# Altium footprint library sm_inductor.PcbLib: 20 footprints (part 1 of 2)
Each footprint in its own frame and in the unit in brackets; x right, y up, seen from the top. Pads: shape width x height; smd on the part's side, far side on the other; paste and mask are expansions set on the pad; w line width, h text height; cw(c..) or ccw(c..) is an arc to the next point about the centre after c.
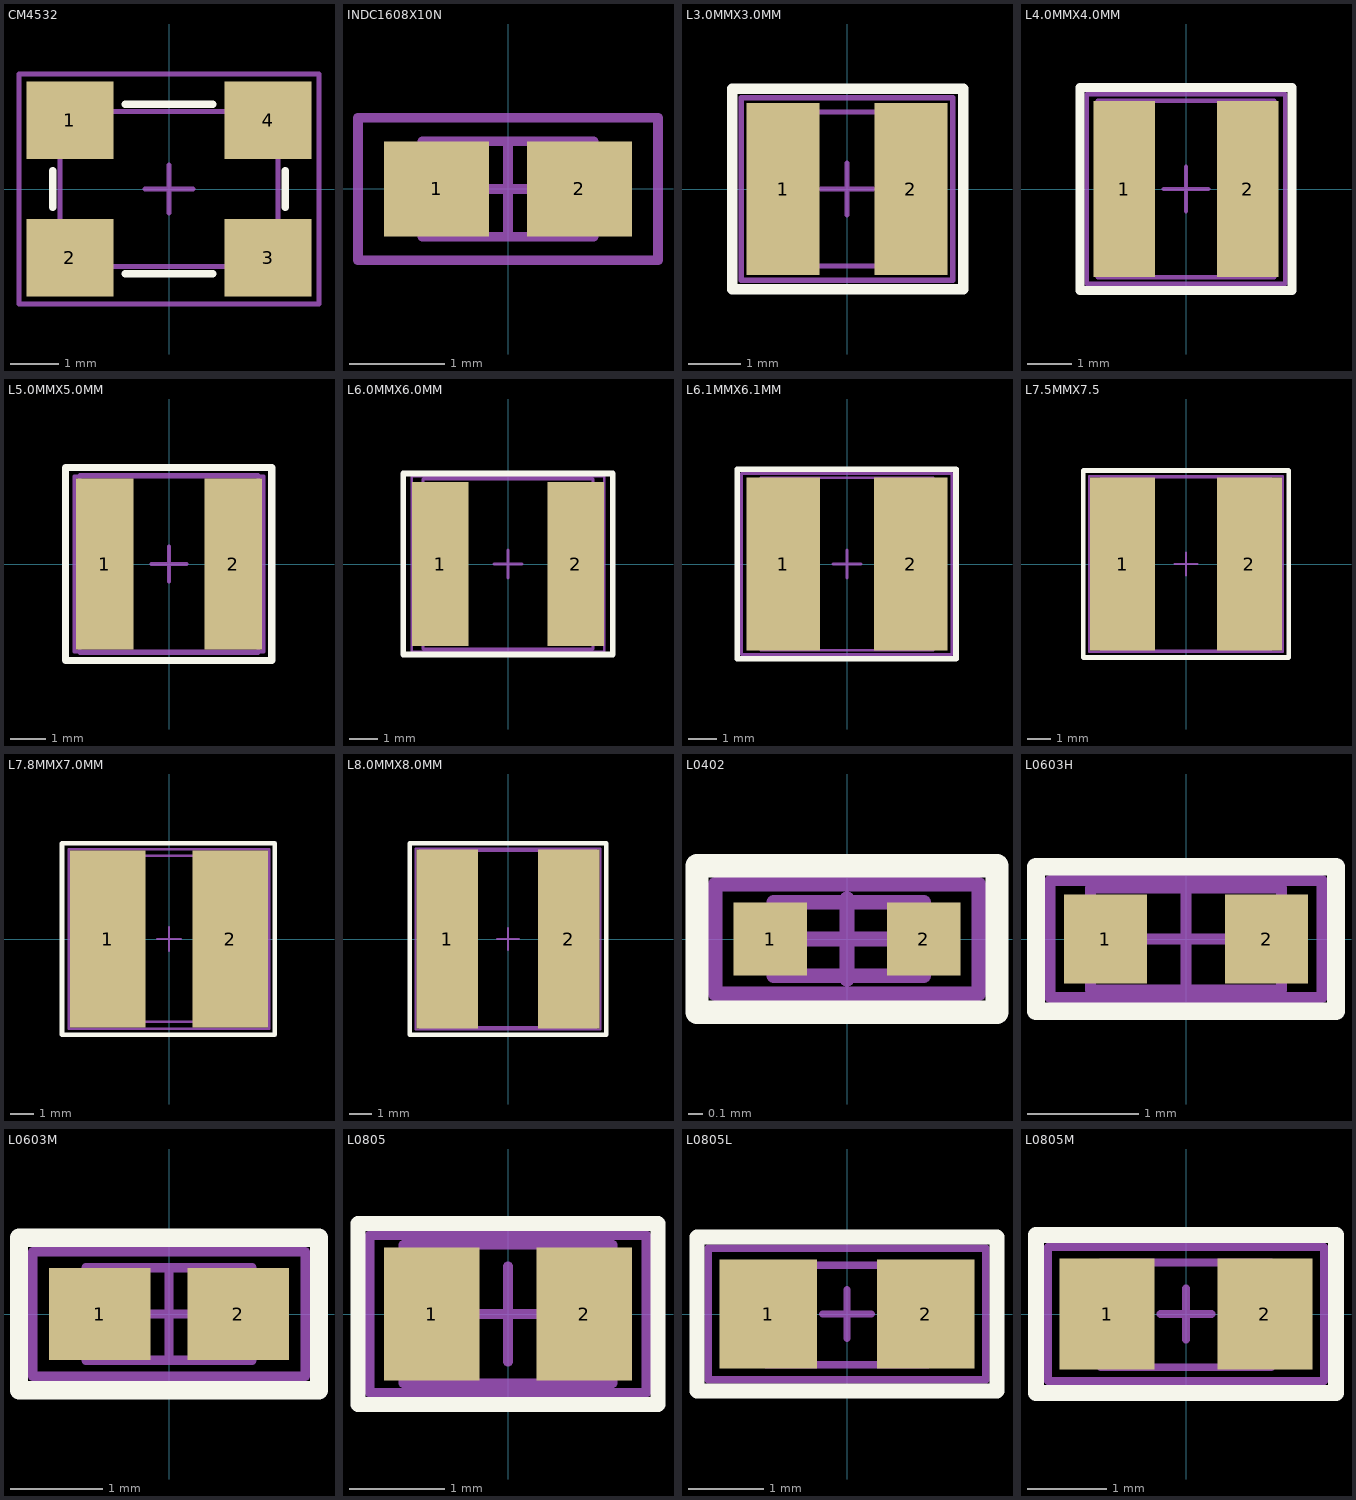
[diagram p0: the footprints below, top view; thin cyan lines are the x and y axes]

## CM4532 [mm] "Chip Inductor, 2-Leads, Body 2.0x1.3mm, IPC High Density"
height 3
pads (4):
  rect 1.8x1.6 smd: 1(-2.05,1.425) 2(-2.05,-1.425) 3(2.05,-1.425) 4(2.05,1.425)
Top Overlay:
  lines w0.16: -2.4,-0.375 -2.4,0.375 ; -0.9,-1.75 0.9,-1.75 ; -0.9,1.75 0.9,1.75 ; 2.4,-0.375 2.4,0.375
Mechanical 13:
  lines w0.1: -0.5,0 0.5,0 ; 0,-0.5 0,0.5 ; -2.25,-1.6 -2.25,1.6 2.25,1.6 2.25,-1.6 -2.25,-1.6
Mechanical 15:
  lines w0.1: -3.1,-2.375 -3.1,2.375 3.1,2.375 3.1,-2.375 -3.1,-2.375
  text ".Designator" at -2.05,-0.15 h0.5
3D body: height 3, standoff 0, extent -2.25,-1.6 2.25,1.6
3D body: height 3, standoff 0, extent -2.25,0.6 -1.25,1.6
3D body: height 3, standoff 0, extent -2.25,-1.6 -1.25,-0.6
3D body: height 3, standoff 0, extent 1.25,-1.6 2.25,-0.6
3D body: height 3, standoff 0, extent 1.25,0.6 2.25,1.6

## INDC1608X10N [mm] "Chip Inductor, 2-Leads, Body 1.6x0.8mm, IPC Medium Density"
height 1
pads (2):
  rect 1.1x1 smd: 1(-0.75,0) 2(0.75,0)
Mechanical 13:
  lines w0.1: -0.9,-0.5 0.9,-0.5 0.9,0.5 -0.9,0.5 -0.9,-0.5
Mechanical 15:
  lines w0.1: -0.5,0 0.5,0 ; 0,-0.5 0,0.5 ; -1.575,-0.75 1.575,-0.75 1.575,0.75 -1.575,0.75 -1.575,-0.75
3D body: height 1, standoff 0, extent -0.9,-0.5 0.9,0.5

## L3.0MMX3.0MM [mm] "Precision Wire Wound Inductor, 2-Leads, Body 3.0x3.0mm, IPC Low Density"
height 1
pads (2):
  rect 1.4x3.3 smd: 1(-1.225,0) 2(1.225,0)
Top Overlay:
  lines w0.2: -2.2,-1.925 2.225,-1.925 2.225,1.925 -2.2,1.925 -2.2,-1.925
Mechanical 13:
  lines w0.1: -0.5,0 0.5,0 ; 0,-0.5 0,0.5 ; -1.475,-1.475 -1.475,1.475 1.475,1.475 1.475,-1.475 -1.475,-1.475
Mechanical 15:
  lines w0.1: -2.025,-1.75 -2.025,1.75 2.025,1.75 2.025,-1.75 -2.025,-1.75
  text ".Designator" at 0.1,-1.375 h0.5
3D body: height 1, standoff 0, extent -1.5,-1.5 1.5,1.5

## L4.0MMX4.0MM [mm] "Precision Wire Wound Inductor, 2-Leads, Body 4.0x4.0mm, IPC Medium Density"
height 1.8
pads (2):
  rect 1.4x4 smd: 1(-1.4,0) 2(1.4,0)
Top Overlay:
  lines w0.2: -2.4,-2.3 -2.4,2.3 2.4,2.3 2.4,-2.3 -2.4,-2.3
Mechanical 13:
  lines w0.1: -0.5,0 0.5,0 ; 0,-0.5 0,0.5 ; -2,-2 2,-2 2,2 -2,2 -2,-2
Mechanical 15:
  lines w0.1: -2.25,-2.15 2.25,-2.15 2.25,2.15 -2.25,2.15 -2.25,-2.15
  text ".Designator" at 0.1,-1.375 h0.5
3D body: height 1.8, standoff 0, extent -2,-2 2,2

## L5.0MMX5.0MM [mm] "Precision Wire Wound Inductor, 2-Leads, Body 5.0x5.0mm, IPC Medium Density"
height 4
pads (2):
  rect 1.6x4.8 smd: 1(-1.8,0) 2(1.8,0)
Top Overlay:
  lines w0.2: -2.9,-2.7 -2.9,2.7 2.875,2.7 2.875,-2.7 -2.9,-2.7
Mechanical 13:
  lines w0.1: -0.5,0 0.5,0 ; 0,-0.5 0,0.5 ; -2.5,-2.5 2.5,-2.5 2.5,2.5 -2.5,2.5 -2.5,-2.5
Mechanical 15:
  lines w0.1: -2.65,-2.45 2.65,-2.45 2.65,2.45 -2.65,2.45 -2.65,-2.45
  text ".Designator" at 0.1,-1.375 h0.5
3D body: height 3.23, standoff -0.02, extent -2.244,-2.057 2.245,1.943

## L6.0MMX6.0MM [mm] "Wire Wound Inductor, 2-Leads, Body 6.0x6.0mm"
height 4.5
pads (2):
  rect 2x5.8 smd: 1(-2.4,0) 2(2.4,0)
Top Overlay:
  lines w0.2: -3.7,-3.2 3.7,-3.2 3.7,3.2 -3.7,3.2 -3.7,-3.2
Mechanical 13:
  lines w0.1: -0.5,0 0.5,0 ; 0,-0.5 0,0.5 ; -3,-3 -3,3 3,3 3,-3 -3,-3
Mechanical 15:
  lines w0.1: -3.4,-3.1 -3.4,3.1 3.4,3.1 3.4,-3.1 -3.4,-3.1
  text ".Designator" at -2.3,-1.2 h0.5
3D body: height 4.51, standoff 0.01, extent -3,-3 3,3

## L6.1MMX6.1MM [mm] "Wire Wound Inductor, 2-Leads, Body 6.1x6.1mm"
height 3.2
pads (2):
  rect 2.6x6.1 smd: 1(-2.25,0) 2(2.25,0)
Top Overlay:
  lines w0.2: -3.875,-3.35 -3.875,3.35 3.85,3.35 3.85,-3.35 -3.875,-3.35
Mechanical 13:
  lines w0.1: -0.5,0 0.5,0 ; 0,-0.5 0,0.5 ; -3.05,-3.05 3.05,-3.05 3.05,3.05 -3.05,3.05 -3.05,-3.05
Mechanical 15:
  lines w0.1: -3.725,-3.2 3.7,-3.2 3.7,3.2 -3.725,3.2 -3.725,-3.2
  text ".Designator" at 0.1,-1.375 h0.5
3D body: height 3.2, standoff 0, extent -3.05,-3.05 3.05,3.05

## L7.5MMX7.5 [mm] "Wire Wound Inductor, 2-Leads, Body 7.6x7.5mm"
height 5
pads (2):
  rect 2.8x7.5 smd: 1(-2.75,0) 2(2.75,0)
Top Overlay:
  lines w0.2: -4.45,-4.05 4.45,-4.05 4.45,4.05 -4.45,4.05 -4.45,-4.05
Mechanical 13:
  lines w0.1: -0.5,0 0.5,0 ; 0,-0.5 0,0.5 ; -3.675,-3.75 -3.675,3.75 3.675,3.75 3.675,-3.75 -3.675,-3.75
Mechanical 15:
  lines w0.1: -4.2,-3.8 -4.2,3.8 4.2,3.8 4.2,-3.8 -4.2,-3.8
  text ".Designator" at 0.1,-1.375 h0.5
3D body: height 5.05, standoff 0, extent -3.677,-3.75 3.677,3.75

## L7.8MMX7.0MM [mm] "Wire Wound Inductor, 2-Leads, Body 7.8x7.0mm"
height 5
pads (2):
  rect 3.2x7.5 smd: 1(-2.6,0) 2(2.6,0)
Top Overlay:
  lines w0.2: -4.525,-4.05 4.475,-4.05 4.475,4.05 -4.525,4.05 -4.525,-4.05
Mechanical 13:
  lines w0.1: -0.5,0 0.5,0 ; 0,-0.5 0,0.5 ; -3.9,-3.5 -3.9,3.525 3.9,3.525 3.9,-3.5 -3.9,-3.5
Mechanical 15:
  lines w0.1: -4.25,-3.8 -4.25,3.8 4.25,3.8 4.25,-3.8 -4.25,-3.8
  text ".Designator" at 0.1,-1.375 h0.5
3D body: height 5, standoff -0.05, extent -3.896,-3.486 3.896,3.514

## L8.0MMX8.0MM [mm] "Wire Wound Inductor, 2-Leads, Body 6.0x6.0mm"
height 4
pads (2):
  rect 2.8x8.1 smd: 1(-2.75,0) 2(2.75,0)
Top Overlay:
  lines w0.2: -4.45,-4.35 -4.45,4.35 4.45,4.35 4.45,-4.35 -4.45,-4.35
Mechanical 13:
  lines w0.1: -0.5,0 0.5,0 ; 0,-0.5 0,0.5 ; -4,-4 4,-4 4,4 -4,4 -4,-4
Mechanical 15:
  lines w0.1: -4.2,-4.1 4.2,-4.1 4.2,4.1 -4.2,4.1 -4.2,-4.1
  text ".Designator" at 0.1,-1.375 h0.5
3D body: height 4, standoff 0, extent -4,-4 4,4

## L0402 [mm] "Chip Inductor, 0402, High Density"
height 0.4
pads (2):
  rect 0.5x0.5 smd: 1(-0.525,0) 2(0.525,0)
Top Overlay:
  lines w0.16: -1.025,-0.5 -1.025,0.5 1.025,0.5 1.025,-0.5 -1.025,-0.5
Mechanical 13:
  lines w0.1: -0.275,0 0.275,0 ; 0,-0.275 0,0.275 ; -0.5,-0.25 -0.5,0.25 0.525,0.25 0.525,-0.25 -0.5,-0.25
Mechanical 15:
  lines w0.1: -0.9,-0.375 -0.9,0.375 0.9,0.375 0.9,-0.375 -0.9,-0.375
  text ".Designator" at -0.8,-0.25 h0.5
3D body: height 0.5, standoff 0, extent -0.3,-0.25 0.3,0.25
3D body: height 0.5, standoff 0, extent -0.55,-0.25 -0.3,0.25
3D body: height 0.5, standoff 0, extent 0.3,-0.25 0.55,0.25

## L0603H [mm] "Chip Inductor 0603"
height 0.92
pads (2):
  rect 0.75x0.8 smd: 1(-0.725,0) 2(0.725,0)
Top Overlay:
  lines w0.16: -1.35,-0.65 -1.35,0.65 1.35,0.65 1.35,-0.65 -1.35,-0.65
Mechanical 13:
  lines w0.1: -0.46,0 0.46,0 ; 0,-0.46 0,0.46 ; -0.86,-0.46 0.86,-0.46 0.86,0.46 -0.86,0.46 -0.86,-0.46
Mechanical 15:
  lines w0.1: -1.225,-0.525 1.225,-0.525 1.225,0.525 -1.225,0.525 -1.225,-0.525
  text ".Designator" at -1.075,-0.2 h0.5
3D body: height 0.82, standoff 0.01, extent -0.425,-0.412 0.425,0.413
3D body: height 0.85, standoff 0, extent -0.825,-0.425 -0.425,0.425
3D body: height 0.85, standoff 0, extent 0.425,-0.425 0.825,0.425

## L0603M [mm] "Chip Inductor, 2-Leads, Body 1.6x0.8mm, IPC Medium Density"
height 1
pads (2):
  rect 1.1x1 smd: 1(-0.75,0) 2(0.75,0)
Top Overlay:
  lines w0.2: -1.625,-0.825 -1.625,0.825 1.625,0.825 1.625,-0.825 -1.625,-0.825
Mechanical 13:
  lines w0.1: -0.46,0 0.46,0 ; 0,-0.46 0,0.46 ; -0.9,-0.5 -0.9,0.5 0.9,0.5 0.9,-0.5 -0.9,-0.5
Mechanical 15:
  lines w0.1: -1.475,-0.675 1.475,-0.675 1.475,0.675 -1.475,0.675 -1.475,-0.675
  text ".Designator" at -1.075,-0.2 h0.5
3D body: height 0.82, standoff 0.01, extent -0.425,-0.412 0.425,0.413
3D body: height 0.85, standoff 0, extent -0.825,-0.425 -0.425,0.425
3D body: height 0.85, standoff 0, extent 0.425,-0.425 0.825,0.425

## L0805 [mm] "Chip Inductor, 0805, High Density"
height 1.05
pads (2):
  rect 1x1.4 smd: 1(-0.8,0) 2(0.8,0)
Top Overlay:
  lines w0.16: -1.575,-0.95 -1.575,0.95 1.575,0.95 1.575,-0.95 -1.575,-0.95
Mechanical 13:
  lines w0.1: -0.5,0 0.5,0 ; 0,-0.5 0,0.5 ; -1.1,-0.725 1.1,-0.725 1.1,0.725 -1.1,0.725 -1.1,-0.725
Mechanical 15:
  lines w0.1: -1.45,-0.825 1.45,-0.825 1.45,0.825 -1.45,0.825 -1.45,-0.825
  text ".Designator" at -1,-0.15 h0.5
3D body: height 1, standoff 0, extent -1.075,-0.675 -0.475,0.675
3D body: height 1, standoff 0, extent 0.475,-0.675 1.075,0.675
3D body: height 0.97, standoff 0.01, extent -0.475,-0.663 0.475,0.663

## L0805L [mm] "Chip Inductor, 2-Leads, Body 2.0x1.3mm, IPC Low Density"
height 1.3
pads (2):
  rect 1.3x1.45 smd: 1(-1.05,0) 2(1.05,0)
Top Overlay:
  lines w0.2: -2,-1.025 2,-1.025 2,1.025 -2,1.025 -2,-1.025
Mechanical 13:
  lines w0.1: -0.325,0 0.325,0 ; 0,-0.325 0,0.325 ; -1.075,-0.675 -1.075,0.65 1.075,0.65 1.075,-0.675 -1.075,-0.675
Mechanical 15:
  lines w0.1: -1.85,-0.875 -1.85,0.875 1.85,0.875 1.85,-0.875 -1.85,-0.875
  text ".Designator" at -1.1,-0.225 h0.5
3D body: height 0.97, standoff 0.01, extent -0.475,-0.663 0.475,0.663
3D body: height 1, standoff 0, extent 0.475,-0.675 1.075,0.675
3D body: height 1, standoff 0, extent -1.075,-0.675 -0.475,0.675

## L0805M [mm] "Chip Inductor, 2-Leads, Body 2.0x1.3mm, IPC Medium Density"
height 1.3
pads (2):
  rect 1.2x1.4 smd: 1(-1,0) 2(1,0)
Top Overlay:
  lines w0.2: -1.9,-1 -1.9,1 1.9,1 1.9,-1 -1.9,-1
Mechanical 13:
  lines w0.1: -0.325,0 0.325,0 ; 0,-0.325 0,0.325 ; -1.075,-0.675 1.075,-0.675 1.075,0.65 -1.075,0.65 -1.075,-0.675
Mechanical 15:
  lines w0.1: -1.75,-0.85 1.75,-0.85 1.75,0.85 -1.75,0.85 -1.75,-0.85
  text ".Designator" at -1.1,-0.225 h0.5
3D body: height 1, standoff 0, extent -1.075,-0.675 -0.475,0.675
3D body: height 1, standoff 0, extent 0.475,-0.675 1.075,0.675
3D body: height 0.97, standoff 0.01, extent -0.475,-0.663 0.475,0.663